# Altium schematic symbol library SCH - MCU - STM32 - ST MICROELECTRONICS STM32G030K(6-8)TX LQFP32.SchLib: 1 symbol
Pins are listed as number, name and electrical type; pins without a type are passive.

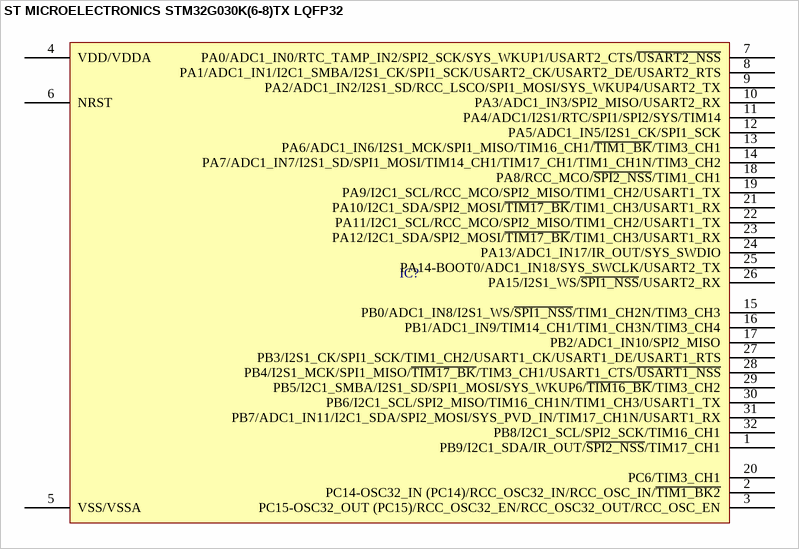
[diagram p0: symbol ST MICROELECTRONICS STM32G030K(6-8)TX LQFP32]

## ST MICROELECTRONICS STM32G030K(6-8)TX LQFP32
designator IC?
pins: 1 PB9/I2C1_SDA/IR_OUT/~{SPI2_NSS}/TIM17_CH1, 2 PC14-OSC32_IN (PC14)/RCC_OSC32_IN/RCC_OSC_IN/~{TIM1_BK2}, 3 PC15-OSC32_OUT (PC15)/RCC_OSC32_EN/RCC_OSC32_OUT/RCC_OSC_EN, 4 VDD/VDDA, 5 VSS/VSSA, 6 NRST, 7 PA0/ADC1_IN0/RTC_TAMP_IN2/SPI2_SCK/SYS_WKUP1/USART2_CTS/~{USART2_NSS}, 8 PA1/ADC1_IN1/I2C1_SMBA/I2S1_CK/SPI1_SCK/USART2_CK/USART2_DE/USART2_RTS, 9 PA2/ADC1_IN2/I2S1_SD/RCC_LSCO/SPI1_MOSI/SYS_WKUP4/USART2_TX, 10 PA3/ADC1_IN3/SPI2_MISO/USART2_RX, 11 PA4/ADC1/I2S1/RTC/SPI1/SPI2/SYS/TIM14, 12 PA5/ADC1_IN5/I2S1_CK/SPI1_SCK, 13 PA6/ADC1_IN6/I2S1_MCK/SPI1_MISO/TIM16_CH1/~{TIM1_BK}/TIM3_CH1, 14 PA7/ADC1_IN7/I2S1_SD/SPI1_MOSI/TIM14_CH1/TIM17_CH1/TIM1_CH1N/TIM3_CH2, 15 PB0/ADC1_IN8/I2S1_WS/~{SPI1_NSS}/TIM1_CH2N/TIM3_CH3, 16 PB1/ADC1_IN9/TIM14_CH1/TIM1_CH3N/TIM3_CH4, 17 PB2/ADC1_IN10/SPI2_MISO, 18 PA8/RCC_MCO/~{SPI2_NSS}/TIM1_CH1, 19 PA9/I2C1_SCL/RCC_MCO/SPI2_MISO/TIM1_CH2/USART1_TX, 20 PC6/TIM3_CH1, 21 PA10/I2C1_SDA/SPI2_MOSI/~{TIM17_BK}/TIM1_CH3/USART1_RX, 22 PA11/I2C1_SCL/RCC_MCO/SPI2_MISO/TIM1_CH2/USART1_TX, 23 PA12/I2C1_SDA/SPI2_MOSI/~{TIM17_BK}/TIM1_CH3/USART1_RX, 24 PA13/ADC1_IN17/IR_OUT/SYS_SWDIO, 25 PA14-BOOT0/ADC1_IN18/SYS_SWCLK/USART2_TX, 26 PA15/I2S1_WS/~{SPI1_NSS}/USART2_RX, 27 PB3/I2S1_CK/SPI1_SCK/TIM1_CH2/USART1_CK/USART1_DE/USART1_RTS, 28 PB4/I2S1_MCK/SPI1_MISO/~{TIM17_BK}/TIM3_CH1/USART1_CTS/~{USART1_NSS}, 29 PB5/I2C1_SMBA/I2S1_SD/SPI1_MOSI/SYS_WKUP6/~{TIM16_BK}/TIM3_CH2, 30 PB6/I2C1_SCL/SPI2_MISO/TIM16_CH1N/TIM1_CH3/USART1_TX, 31 PB7/ADC1_IN11/I2C1_SDA/SPI2_MOSI/SYS_PVD_IN/TIM17_CH1N/USART1_RX, 32 PB8/I2C1_SCL/SPI2_SCK/TIM16_CH1